# Altium footprint library Module.PcbLib: 47 footprints (part 1 of 4)
Each footprint in its own frame and in the unit in brackets; x right, y up, seen from the top. Pads: shape width x height; smd on the part's side, far side on the other; paste and mask are expansions set on the pad; w line width, h text height; cw(c..) or ccw(c..) is an arc to the next point about the centre after c.
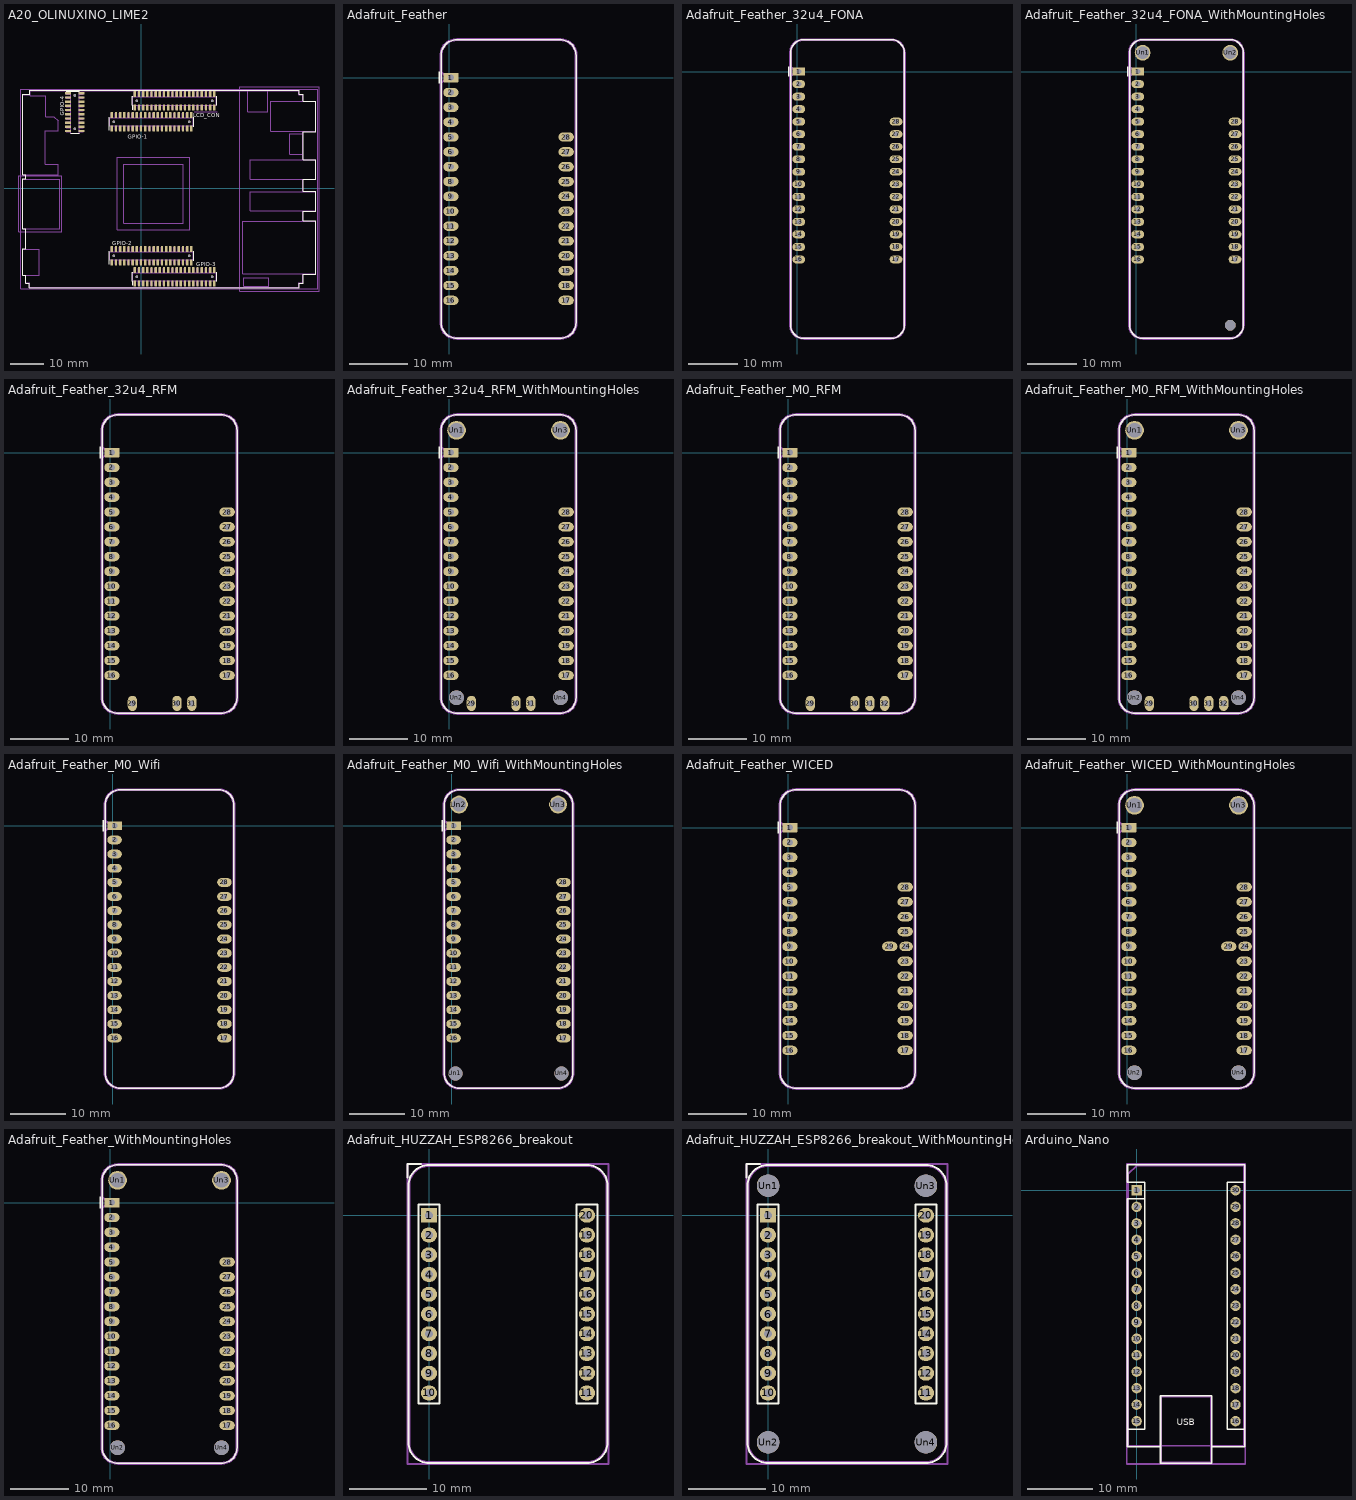
[diagram p0: the footprints below, top view; thin cyan lines are the x and y axes]

## A20_OLINUXINO_LIME2 [mm]
pads (190):
  rect 0.7x1.8 smd: 1-1(-8.95,18.16) 1-2(-8.95,22.23) 1-3(-7.68,18.16) 1-4(-7.68,22.23) 1-5(-6.41,18.16) 1-6(-6.41,22.23) 1-7(-5.14,18.16) 1-8(-5.14,22.23) 1-9(-3.87,18.16) 1-10(-3.87,22.23) 1-11(-2.6,18.16) 1-12(-2.6,22.23) 1-13(-1.33,18.16) 1-14(-1.33,22.23) 1-15(-0.06,18.16) 1-16(-0.06,22.23) 1-17(1.21,18.16) 1-18(1.21,22.23) 1-19(2.48,18.16) 1-20(2.48,22.23) 1-21(3.75,18.16) 1-22(3.75,22.23) 1-23(5.02,18.16) 1-24(5.02,22.23) 1-25(6.29,18.16) 1-26(6.29,22.23) 1-27(7.56,18.16) 1-28(7.56,22.23) 1-29(8.83,18.16) 1-30(8.83,22.23) 1-31(10.09,18.16) 1-32(10.09,22.23) 1-33(11.37,18.16) 1-34(11.37,22.23) 1-35(12.64,18.16) 1-36(12.64,22.23) 1-37(13.91,18.16) 1-38(13.91,22.23) 1-39(15.18,18.16) 1-40(15.18,22.23) 2-1(-8.95,-22.48) 2-2(-8.95,-18.42) 2-3(-7.68,-22.48) 2-4(-7.68,-18.42) 2-5(-6.41,-22.48) 2-6(-6.41,-18.42) 2-7(-5.14,-22.48) 2-8(-5.14,-18.42) 2-9(-3.87,-22.48) 2-10(-3.87,-18.42) 2-11(-2.6,-22.48) 2-12(-2.6,-18.42) 2-13(-1.33,-22.48) 2-14(-1.33,-18.42) 2-15(-0.06,-22.48) 2-16(-0.06,-18.42) 2-17(1.21,-22.48) 2-18(1.21,-18.42) 2-19(2.48,-22.48) 2-20(2.48,-18.42) 2-21(3.75,-22.48) 2-22(3.75,-18.42) 2-23(5.02,-22.48) 2-24(5.02,-18.42) 2-25(6.29,-22.48) 2-26(6.29,-18.42) 2-27(7.56,-22.48) 2-28(7.56,-18.42) 2-29(8.83,-22.48) 2-30(8.83,-18.42) 2-31(10.09,-22.48) 2-32(10.09,-18.42) 2-33(11.37,-22.48) 2-34(11.37,-18.42) 2-35(12.64,-22.48) 2-36(12.64,-18.42) 2-37(13.91,-22.48) 2-38(13.91,-18.42) 2-39(15.18,-22.48) 2-40(15.18,-18.42) 3-1(-1.97,-28.83) 3-2(-1.97,-24.76) 3-3(-0.7,-28.83) 3-4(-0.7,-24.76) 3-5(0.57,-28.83) 3-6(0.57,-24.76) 3-7(1.84,-28.83) 3-8(1.84,-24.76) 3-9(3.11,-28.83) 3-10(3.11,-24.76) 3-11(4.38,-28.83) 3-12(4.38,-24.76) 3-13(5.65,-28.83) 3-14(5.65,-24.76) 3-15(6.92,-28.83) 3-16(6.92,-24.76) 3-17(8.19,-28.83) 3-18(8.19,-24.76) 3-19(9.46,-28.83) 3-20(9.46,-24.76) 3-21(10.73,-28.83) 3-22(10.73,-24.76) 3-23(12,-28.83) 3-24(12,-24.76) 3-25(13.27,-28.83) 3-26(13.27,-24.76) 3-27(14.54,-28.83) 3-28(14.54,-24.76) 3-29(15.81,-28.83) 3-30(15.81,-24.76) 3-31(17.08,-28.83) 3-32(17.08,-24.76) 3-33(18.35,-28.83) 3-34(18.35,-24.76) 3-35(19.62,-28.83) 3-36(19.62,-24.76) 3-37(20.89,-28.83) 3-38(20.89,-24.76) 3-39(22.16,-28.83) 3-40(22.16,-24.76) D-1(-1.97,24.51) D-2(-1.97,28.58) D-3(-0.7,24.51) D-4(-0.7,28.58) D-5(0.57,24.51) D-6(0.57,28.58) D-7(1.84,24.51) D-8(1.84,28.58) D-9(3.11,24.51) D-10(3.11,28.58) D-11(4.38,24.51) D-12(4.38,28.58) D-13(5.65,24.51) D-14(5.65,28.58) D-15(6.92,24.51) D-16(6.92,28.58) D-17(8.19,24.51) D-18(8.19,28.58) D-19(9.46,24.51) D-20(9.46,28.58) D-21(10.73,24.51) D-22(10.73,28.58) D-23(12,24.51) D-24(12,28.58) D-25(13.27,24.51) D-26(13.27,28.58) D-27(14.54,24.51) D-28(14.54,28.58) D-29(15.81,24.51) D-30(15.81,28.58) D-31(17.08,24.51) D-32(17.08,28.58) D-33(18.35,24.51) D-34(18.35,28.58) D-35(19.62,24.51) D-36(19.62,28.58) D-37(20.89,24.51) D-38(20.89,28.58) D-39(22.16,24.51) D-40(22.16,28.58)
  rect 1.8x0.7 smd: 4-1(-18.1,17.4) 4-2(-22.16,17.4) 4-3(-18.1,18.67) 4-4(-22.16,18.67) 4-5(-18.1,19.94) 4-6(-22.16,19.94) 4-7(-18.1,21.21) 4-8(-22.16,21.21) 4-9(-18.1,22.48) 4-10(-22.16,22.48) 4-11(-18.1,23.75) 4-12(-22.16,23.75) 4-13(-18.1,25.02) 4-14(-22.16,25.02) 4-15(-18.1,26.29) 4-16(-22.16,26.29) 4-17(-18.1,27.56) 4-18(-22.16,27.56) 4-19(-18.1,28.83) 4-20(-22.16,28.83)
  round 0.8 hole 0.8: Un1(-20.13,28.19) Un2(-20.13,18.04) Un3(-8.32,20.19) Un4(-8.32,-20.45) Un5(-1.33,26.54) Un6(-1.33,-26.8) Un7(14.54,20.19) Un8(14.54,-20.45) Un9(21.53,26.54) Un10(21.53,-26.8)
F.SilkS:
  lines w0.254: -22.75,29.5 -21.45,29.5 -21.45,29.52 -18.79,29.52 -18.79,29.5 ; -21.45,16.72 -21.45,16.7 -18.79,16.7 -18.79,16.72 ; -9.63,-23.07 -9.63,-21.77 -9.65,-21.77 -9.65,-19.11 -9.63,-19.11 ; -9.63,17.57 -9.63,18.87 -9.65,18.87 -9.65,21.53 -9.63,21.53 ; -2.65,-29.42 -2.65,-28.12 -2.67,-28.12 -2.67,-25.46 -2.65,-25.46 ; -2.65,23.92 -2.65,25.22 -2.67,25.22 -2.67,27.88 -2.65,27.88 ; 15.85,-21.77 15.87,-21.77 15.87,-19.11 15.85,-19.11 ; 15.85,18.87 15.87,18.87 15.87,21.53 15.85,21.53 ; 22.83,-28.12 22.85,-28.12 22.85,-25.46 22.83,-25.46 ; 22.83,25.22 22.85,25.22 22.85,27.88 22.83,27.88 ; -36,-26.4 -36,-18.3 -35.1,-18.3 -35.1,-12.3 -36,-12.3 -36,2.9 -35.1,2.9 -35.1,4.1 -36,4.1 -36,28.6 -33.8,28.6 -33.8,29.7 47.9,29.7 47.9,28.6 49.1,28.6 49.1,26.5 53,26.5 53,17.2 49.1,17.2 49.1,8.7 53,8.7 53,2.7 49.1,2.7 49.1,-0.9 53,-0.9 53,-6.9 49.1,-6.9 49.1,-9.8 53,-9.8 53,-26 49.1,-26 49.1,-28.8 47.9,-28.8 47.9,-30.1 -34,-30.1 -34,-28.8 -35.1,-28.8 -35.1,-26.4 -36,-26.4
  text "GPIO-3" at 16.716,-23.565 h1.27
  text "GPIO-4" at -23.415,21.986 h1.27
  text "LCD_CON" at 15.718,21.534 h1.27
  text "GPIO-1" at -4.092,15.115 h1.27
  text "GPIO-2" at -8.774,-17.195 h1.27
Top Component Center:
  lines w0.127: -0.127,0 0.127,0 ; 0,-0.127 0,0.127
Top Assembly:
  drawing of 819 lines, arcs and shapes, not listed
  text "'.Designator'" at -4.047,-0.84 h1
Top Courtyard:
  lines w0.254: -2.88,29.61 23.02,29.61 ; 16.12,23.31 23.02,23.31 ; -36.5,-30.5 -36.5,30 53.5,30 53.5,-30.5 -36.5,-30.5
Top Designator:
  text ".Designator" at 0.802,-0.698 h1.52
Dwgs.User:
  lines w0.254: -37.08,-13.19 -37.08,3.81 -24.08,3.81 -24.08,-13.19 -37.08,-13.19 ; -7.33,-12.62 -7.33,9.38 14.67,9.38 14.67,-12.62 -7.33,-12.62 ; -5.33,-10.62 -5.33,7.38 12.67,7.38 12.67,-10.62 -5.33,-10.62 ; 29.92,-31.19 29.92,30.81 53.92,30.81 53.92,-31.19 29.92,-31.19
  text "Cutout" at -32.384,-3.84 h1
  text "for shield" at -4.778,1.526 h1
  text "required" at 35.232,10.97 h1
  text "required" at -32.768,-6.03 h1
  text "Cut out >=22x22mm" at -4.093,-5.94 h1
  text "CPU 18mmx18mm" at -4.313,5.15 h1
  text "Mininum cut out" at -4.115,3.326 h1
  text "Cutout" at 35.616,13.16 h1
  text "20mm heatsink" at -4.938,-9.764 h1
  text "if using" at -4.141,-8.03 h1

## Adafruit_Feather [mm]
pads (28):
  rrect16% 2.6x1.6 hole 1: 1(0.3,0)
  rrect100% 2.6x1.6 hole 1: 2(0.3,-2.54) 3(0.3,-5.08) 4(0.3,-7.62) 5(0.3,-10.16) 6(0.3,-12.7) 7(0.3,-15.24) 8(0.3,-17.78) 9(0.3,-20.32) 10(0.3,-22.86) 11(0.3,-25.4) 12(0.3,-27.94) 13(0.3,-30.48) 14(0.3,-33.02) 15(0.3,-35.56) 16(0.3,-38.1) 17(20.02,-38.1) 18(20.02,-35.56) 19(20.02,-33.02) 20(20.02,-30.48) 21(20.02,-27.94) 22(20.02,-25.4) 23(20.02,-22.86) 24(20.02,-20.32) 25(20.02,-17.78) 26(20.02,-15.24) 27(20.02,-12.7) 28(20.02,-10.16)
F.SilkS:
  lines w0.254: -1.7,-1 -1.7,1 ; -1.38,-41.91 ccw(c1.27,-41.91) 1.27,-44.56 19.05,-44.56 ccw(c19.05,-41.91) 21.7,-41.91 21.7,3.81 ccw(c19.05,3.81) 19.05,6.46 1.27,6.46 ccw(c1.27,3.81) -1.38,3.81 -1.38,-41.91
Top Assembly:
  lines w0.254: -1.27,-0.889 -0.381,0 -1.27,0.889 ; 1.221,-44.45 cw(c1.27,-41.91) -1.27,-41.91 -1.27,3.81 cw(c1.27,3.81) 1.27,6.35 19.05,6.35 cw(c19.05,3.81) 21.59,3.81 21.59,-41.91 cw(c19.05,-41.91) 19.05,-44.45 1.27,-44.45
  text "'.Designator'" at 11,-23.097 h1
Top Courtyard:
  lines w0.254: -1.52,-41.91 ccw(c1.27,-41.91) 1.27,-44.7 19.05,-44.7 ccw(c19.05,-41.91) 21.84,-41.91 21.84,3.81 ccw(c19.05,3.81) 19.05,6.6 1.27,6.6 ccw(c1.27,3.81) -1.52,3.81 -1.52,-41.91
Top Designator:
  text ".Designator" at 2.452,-19.558 h1.52

## Adafruit_Feather_32u4_FONA [mm]
pads (28):
  rrect16% 2.6x1.6 hole 1: 1(0.3,0)
  rrect100% 2.6x1.6 hole 1: 2(0.3,-2.54) 3(0.3,-5.08) 4(0.3,-7.62) 5(0.3,-10.16) 6(0.3,-12.7) 7(0.3,-15.24) 8(0.3,-17.78) 9(0.3,-20.32) 10(0.3,-22.86) 11(0.3,-25.4) 12(0.3,-27.94) 13(0.3,-30.48) 14(0.3,-33.02) 15(0.3,-35.56) 16(0.3,-38.1) 17(20.02,-38.1) 18(20.02,-35.56) 19(20.02,-33.02) 20(20.02,-30.48) 21(20.02,-27.94) 22(20.02,-25.4) 23(20.02,-22.86) 24(20.02,-20.32) 25(20.02,-17.78) 26(20.02,-15.24) 27(20.02,-12.7) 28(20.02,-10.16)
F.SilkS:
  lines w0.254: -1.7,-1 -1.7,1 ; -1.38,-51.44 ccw(c1.27,-51.44) 1.27,-54.09 19.05,-54.09 ccw(c19.05,-51.44) 21.7,-51.44 21.7,3.81 ccw(c19.05,3.81) 19.05,6.46 1.27,6.46 ccw(c1.27,3.81) -1.38,3.81 -1.38,-51.44
Top Assembly:
  lines w0.254: -1.27,-0.889 -0.381,0 -1.27,0.889 ; 1.221,-53.98 cw(c1.27,-51.44) -1.27,-51.44 -1.27,3.81 cw(c1.27,3.81) 1.27,6.35 19.05,6.35 cw(c19.05,3.81) 21.59,3.81 21.59,-51.44 cw(c19.05,-51.44) 19.05,-53.98 1.27,-53.98
  text "'.Designator'" at 11,-27.862 h1
Top Courtyard:
  lines w0.254: -1.52,-51.44 ccw(c1.27,-51.44) 1.27,-54.23 19.05,-54.23 ccw(c19.05,-51.44) 21.84,-51.44 21.84,3.81 ccw(c19.05,3.81) 19.05,6.6 1.27,6.6 ccw(c1.27,3.81) -1.52,3.81 -1.52,-51.44
Top Designator:
  text ".Designator" at 2.452,-24.323 h1.52

## Adafruit_Feather_32u4_FONA_WithMountingHoles [mm]
pads (31):
  rrect16% 2.6x1.6 hole 1: 1(0.3,0)
  rrect100% 2.6x1.6 hole 1: 2(0.3,-2.54) 3(0.3,-5.08) 4(0.3,-7.62) 5(0.3,-10.16) 6(0.3,-12.7) 7(0.3,-15.24) 8(0.3,-17.78) 9(0.3,-20.32) 10(0.3,-22.86) 11(0.3,-25.4) 12(0.3,-27.94) 13(0.3,-30.48) 14(0.3,-33.02) 15(0.3,-35.56) 16(0.3,-38.1) 17(20.02,-38.1) 18(20.02,-35.56) 19(20.02,-33.02) 20(20.02,-30.48) 21(20.02,-27.94) 22(20.02,-25.4) 23(20.02,-22.86) 24(20.02,-20.32) 25(20.02,-17.78) 26(20.02,-15.24) 27(20.02,-12.7) 28(20.02,-10.16)
  round 3.2 hole 2.5: Un1(1.27,3.81) Un2(19.05,3.81)
  round 2.2 hole 2.2: Un3(19.05,-51.44)
F.SilkS:
  lines w0.254: -1.7,-1 -1.7,1 ; -1.38,-51.44 ccw(c1.27,-51.44) 1.27,-54.09 19.05,-54.09 ccw(c19.05,-51.44) 21.7,-51.44 21.7,3.81 ccw(c19.05,3.81) 19.05,6.46 1.27,6.46 ccw(c1.27,3.81) -1.38,3.81 -1.38,-51.44
Top Assembly:
  lines w0.254: -1.27,-0.889 -0.381,0 -1.27,0.889 ; 1.221,-53.98 cw(c1.27,-51.44) -1.27,-51.44 -1.27,3.81 cw(c1.27,3.81) 1.27,6.35 19.05,6.35 cw(c19.05,3.81) 21.59,3.81 21.59,-51.44 cw(c19.05,-51.44) 19.05,-53.98 1.27,-53.98
  text "'.Designator'" at 11,-27.862 h1
Top Courtyard:
  lines w0.254: -1.52,-51.44 ccw(c1.27,-51.44) 1.27,-54.23 19.05,-54.23 ccw(c19.05,-51.44) 21.84,-51.44 21.84,3.81 ccw(c19.05,3.81) 19.05,6.6 1.27,6.6 ccw(c1.27,3.81) -1.52,3.81 -1.52,-51.44
Top Designator:
  text ".Designator" at 2.452,-24.323 h1.52

## Adafruit_Feather_32u4_RFM [mm]
pads (31):
  rrect16% 2.6x1.6 hole 1: 1(0.3,0)
  rrect100% 2.6x1.6 hole 1: 2(0.3,-2.54) 3(0.3,-5.08) 4(0.3,-7.62) 5(0.3,-10.16) 6(0.3,-12.7) 7(0.3,-15.24) 8(0.3,-17.78) 9(0.3,-20.32) 10(0.3,-22.86) 11(0.3,-25.4) 12(0.3,-27.94) 13(0.3,-30.48) 14(0.3,-33.02) 15(0.3,-35.56) 16(0.3,-38.1) 17(20.02,-38.1) 18(20.02,-35.56) 19(20.02,-33.02) 20(20.02,-30.48) 21(20.02,-27.94) 22(20.02,-25.4) 23(20.02,-22.86) 24(20.02,-20.32) 25(20.02,-17.78) 26(20.02,-15.24) 27(20.02,-12.7) 28(20.02,-10.16)
  rrect100% 1.6x2.6 hole 1: 29(3.81,-42.88) 30(11.43,-42.88) 31(13.97,-42.88)
F.SilkS:
  lines w0.254: -1.7,-1 -1.7,1 ; -1.38,-41.91 ccw(c1.27,-41.91) 1.27,-44.56 19.05,-44.56 ccw(c19.05,-41.91) 21.7,-41.91 21.7,3.81 ccw(c19.05,3.81) 19.05,6.46 1.27,6.46 ccw(c1.27,3.81) -1.38,3.81 -1.38,-41.91
Top Assembly:
  lines w0.254: -1.27,-0.889 -0.381,0 -1.27,0.889 ; 1.221,-44.45 cw(c1.27,-41.91) -1.27,-41.91 -1.27,3.81 cw(c1.27,3.81) 1.27,6.35 19.05,6.35 cw(c19.05,3.81) 21.59,3.81 21.59,-41.91 cw(c19.05,-41.91) 19.05,-44.45 1.27,-44.45
  text "'.Designator'" at 11,-23.097 h1
Top Courtyard:
  lines w0.254: -1.52,-41.91 ccw(c1.27,-41.91) 1.27,-44.7 19.05,-44.7 ccw(c19.05,-41.91) 21.84,-41.91 21.84,3.81 ccw(c19.05,3.81) 19.05,6.6 1.27,6.6 ccw(c1.27,3.81) -1.52,3.81 -1.52,-41.91
Top Designator:
  text ".Designator" at 2.452,-19.558 h1.52

## Adafruit_Feather_32u4_RFM_WithMountingHoles [mm]
pads (35):
  rrect16% 2.6x1.6 hole 1: 1(0.3,0)
  rrect100% 2.6x1.6 hole 1: 2(0.3,-2.54) 3(0.3,-5.08) 4(0.3,-7.62) 5(0.3,-10.16) 6(0.3,-12.7) 7(0.3,-15.24) 8(0.3,-17.78) 9(0.3,-20.32) 10(0.3,-22.86) 11(0.3,-25.4) 12(0.3,-27.94) 13(0.3,-30.48) 14(0.3,-33.02) 15(0.3,-35.56) 16(0.3,-38.1) 17(20.02,-38.1) 18(20.02,-35.56) 19(20.02,-33.02) 20(20.02,-30.48) 21(20.02,-27.94) 22(20.02,-25.4) 23(20.02,-22.86) 24(20.02,-20.32) 25(20.02,-17.78) 26(20.02,-15.24) 27(20.02,-12.7) 28(20.02,-10.16)
  rrect100% 1.6x2.6 hole 1: 29(3.81,-42.88) 30(11.43,-42.88) 31(13.97,-42.88)
  round 3.2 hole 2.5: Un1(1.27,3.81) Un3(19.05,3.81)
  round 2.54 hole 2.54: Un2(1.27,-41.91) Un4(19.05,-41.91)
F.SilkS:
  lines w0.254: -1.7,-1 -1.7,1 ; -1.38,-41.91 ccw(c1.27,-41.91) 1.27,-44.56 19.05,-44.56 ccw(c19.05,-41.91) 21.7,-41.91 21.7,3.81 ccw(c19.05,3.81) 19.05,6.46 1.27,6.46 ccw(c1.27,3.81) -1.38,3.81 -1.38,-41.91
Top Assembly:
  lines w0.254: -1.27,-0.889 -0.381,0 -1.27,0.889 ; 1.221,-44.45 cw(c1.27,-41.91) -1.27,-41.91 -1.27,3.81 cw(c1.27,3.81) 1.27,6.35 19.05,6.35 cw(c19.05,3.81) 21.59,3.81 21.59,-41.91 cw(c19.05,-41.91) 19.05,-44.45 1.27,-44.45
  text "'.Designator'" at 11,-23.097 h1
Top Courtyard:
  lines w0.254: -1.52,-41.91 ccw(c1.27,-41.91) 1.27,-44.7 19.05,-44.7 ccw(c19.05,-41.91) 21.84,-41.91 21.84,3.81 ccw(c19.05,3.81) 19.05,6.6 1.27,6.6 ccw(c1.27,3.81) -1.52,3.81 -1.52,-41.91
Top Designator:
  text ".Designator" at 2.452,-19.558 h1.52

## Adafruit_Feather_M0_RFM [mm]
pads (32):
  rrect16% 2.6x1.6 hole 1: 1(0.3,0)
  rrect100% 2.6x1.6 hole 1: 2(0.3,-2.54) 3(0.3,-5.08) 4(0.3,-7.62) 5(0.3,-10.16) 6(0.3,-12.7) 7(0.3,-15.24) 8(0.3,-17.78) 9(0.3,-20.32) 10(0.3,-22.86) 11(0.3,-25.4) 12(0.3,-27.94) 13(0.3,-30.48) 14(0.3,-33.02) 15(0.3,-35.56) 16(0.3,-38.1) 17(20.02,-38.1) 18(20.02,-35.56) 19(20.02,-33.02) 20(20.02,-30.48) 21(20.02,-27.94) 22(20.02,-25.4) 23(20.02,-22.86) 24(20.02,-20.32) 25(20.02,-17.78) 26(20.02,-15.24) 27(20.02,-12.7) 28(20.02,-10.16)
  rrect100% 1.6x2.6 hole 1: 29(3.81,-42.88) 30(11.43,-42.88) 31(13.97,-42.88) 32(16.51,-42.88)
F.SilkS:
  lines w0.254: -1.7,-1 -1.7,1 ; -1.38,-41.91 ccw(c1.27,-41.91) 1.27,-44.56 19.05,-44.56 ccw(c19.05,-41.91) 21.7,-41.91 21.7,3.81 ccw(c19.05,3.81) 19.05,6.46 1.27,6.46 ccw(c1.27,3.81) -1.38,3.81 -1.38,-41.91
Top Assembly:
  lines w0.254: -1.27,-0.889 -0.381,0 -1.27,0.889 ; 1.221,-44.45 cw(c1.27,-41.91) -1.27,-41.91 -1.27,3.81 cw(c1.27,3.81) 1.27,6.35 19.05,6.35 cw(c19.05,3.81) 21.59,3.81 21.59,-41.91 cw(c19.05,-41.91) 19.05,-44.45 1.27,-44.45
  text "'.Designator'" at 11,-23.097 h1
Top Courtyard:
  lines w0.254: -1.52,-41.91 ccw(c1.27,-41.91) 1.27,-44.7 19.05,-44.7 ccw(c19.05,-41.91) 21.84,-41.91 21.84,3.81 ccw(c19.05,3.81) 19.05,6.6 1.27,6.6 ccw(c1.27,3.81) -1.52,3.81 -1.52,-41.91
Top Designator:
  text ".Designator" at 2.452,-19.558 h1.52

## Adafruit_Feather_M0_RFM_WithMountingHoles [mm]
pads (36):
  rrect16% 2.6x1.6 hole 1: 1(0.3,0)
  rrect100% 2.6x1.6 hole 1: 2(0.3,-2.54) 3(0.3,-5.08) 4(0.3,-7.62) 5(0.3,-10.16) 6(0.3,-12.7) 7(0.3,-15.24) 8(0.3,-17.78) 9(0.3,-20.32) 10(0.3,-22.86) 11(0.3,-25.4) 12(0.3,-27.94) 13(0.3,-30.48) 14(0.3,-33.02) 15(0.3,-35.56) 16(0.3,-38.1) 17(20.02,-38.1) 18(20.02,-35.56) 19(20.02,-33.02) 20(20.02,-30.48) 21(20.02,-27.94) 22(20.02,-25.4) 23(20.02,-22.86) 24(20.02,-20.32) 25(20.02,-17.78) 26(20.02,-15.24) 27(20.02,-12.7) 28(20.02,-10.16)
  rrect100% 1.6x2.6 hole 1: 29(3.81,-42.88) 30(11.43,-42.88) 31(13.97,-42.88) 32(16.51,-42.88)
  round 3.2 hole 2.5: Un1(1.27,3.81) Un3(19.05,3.81)
  round 2.54 hole 2.54: Un2(1.27,-41.91) Un4(19.05,-41.91)
F.SilkS:
  lines w0.254: -1.7,-1 -1.7,1 ; -1.38,-41.91 ccw(c1.27,-41.91) 1.27,-44.56 19.05,-44.56 ccw(c19.05,-41.91) 21.7,-41.91 21.7,3.81 ccw(c19.05,3.81) 19.05,6.46 1.27,6.46 ccw(c1.27,3.81) -1.38,3.81 -1.38,-41.91
Top Assembly:
  lines w0.254: -1.27,-0.889 -0.381,0 -1.27,0.889 ; 1.221,-44.45 cw(c1.27,-41.91) -1.27,-41.91 -1.27,3.81 cw(c1.27,3.81) 1.27,6.35 19.05,6.35 cw(c19.05,3.81) 21.59,3.81 21.59,-41.91 cw(c19.05,-41.91) 19.05,-44.45 1.27,-44.45
  text "'.Designator'" at 11,-23.097 h1
Top Courtyard:
  lines w0.254: -1.52,-41.91 ccw(c1.27,-41.91) 1.27,-44.7 19.05,-44.7 ccw(c19.05,-41.91) 21.84,-41.91 21.84,3.81 ccw(c19.05,3.81) 19.05,6.6 1.27,6.6 ccw(c1.27,3.81) -1.52,3.81 -1.52,-41.91
Top Designator:
  text ".Designator" at 2.452,-19.558 h1.52

## Adafruit_Feather_M0_Wifi [mm]
pads (28):
  rrect16% 2.6x1.6 hole 1: 1(0.3,0)
  rrect100% 2.6x1.6 hole 1: 2(0.3,-2.54) 3(0.3,-5.08) 4(0.3,-7.62) 5(0.3,-10.16) 6(0.3,-12.7) 7(0.3,-15.24) 8(0.3,-17.78) 9(0.3,-20.32) 10(0.3,-22.86) 11(0.3,-25.4) 12(0.3,-27.94) 13(0.3,-30.48) 14(0.3,-33.02) 15(0.3,-35.56) 16(0.3,-38.1) 17(20.02,-38.1) 18(20.02,-35.56) 19(20.02,-33.02) 20(20.02,-30.48) 21(20.02,-27.94) 22(20.02,-25.4) 23(20.02,-22.86) 24(20.02,-20.32) 25(20.02,-17.78) 26(20.02,-15.24) 27(20.02,-12.7) 28(20.02,-10.16)
F.SilkS:
  lines w0.254: -1.7,-1 -1.7,1 ; -1.38,-44.45 ccw(c1.27,-44.45) 1.27,-47.1 19.05,-47.1 ccw(c19.05,-44.45) 21.7,-44.45 21.7,3.81 ccw(c19.05,3.81) 19.05,6.46 1.27,6.46 ccw(c1.27,3.81) -1.38,3.81 -1.38,-44.45
Top Assembly:
  lines w0.254: -1.27,-0.889 -0.381,0 -1.27,0.889 ; 1.221,-46.99 cw(c1.27,-44.45) -1.27,-44.45 -1.27,3.81 cw(c1.27,3.81) 1.27,6.35 19.05,6.35 cw(c19.05,3.81) 21.59,3.81 21.59,-44.45 cw(c19.05,-44.45) 19.05,-46.99 1.27,-46.99
  text "'.Designator'" at 11,-24.367 h1
Top Courtyard:
  lines w0.254: -1.52,-44.45 ccw(c1.27,-44.45) 1.27,-47.24 19.05,-47.24 ccw(c19.05,-44.45) 21.84,-44.45 21.84,3.81 ccw(c19.05,3.81) 19.05,6.6 1.27,6.6 ccw(c1.27,3.81) -1.52,3.81 -1.52,-44.45
Top Designator:
  text ".Designator" at 2.452,-20.828 h1.52

## Adafruit_Feather_M0_Wifi_WithMountingHoles [mm]
pads (32):
  rrect16% 2.6x1.6 hole 1: 1(0.3,0)
  rrect100% 2.6x1.6 hole 1: 2(0.3,-2.54) 3(0.3,-5.08) 4(0.3,-7.62) 5(0.3,-10.16) 6(0.3,-12.7) 7(0.3,-15.24) 8(0.3,-17.78) 9(0.3,-20.32) 10(0.3,-22.86) 11(0.3,-25.4) 12(0.3,-27.94) 13(0.3,-30.48) 14(0.3,-33.02) 15(0.3,-35.56) 16(0.3,-38.1) 17(20.02,-38.1) 18(20.02,-35.56) 19(20.02,-33.02) 20(20.02,-30.48) 21(20.02,-27.94) 22(20.02,-25.4) 23(20.02,-22.86) 24(20.02,-20.32) 25(20.02,-17.78) 26(20.02,-15.24) 27(20.02,-12.7) 28(20.02,-10.16)
  round 2.54 hole 2.54: Un1(0.635,-44.45) Un4(19.685,-44.45)
  round 3.2 hole 2.5: Un2(1.27,3.81) Un3(19.05,3.81)
F.SilkS:
  lines w0.254: -1.7,-1 -1.7,1 ; -1.38,-44.45 ccw(c1.27,-44.45) 1.27,-47.1 19.05,-47.1 ccw(c19.05,-44.45) 21.7,-44.45 21.7,3.81 ccw(c19.05,3.81) 19.05,6.46 1.27,6.46 ccw(c1.27,3.81) -1.38,3.81 -1.38,-44.45
Top Assembly:
  lines w0.254: -1.27,-0.889 -0.381,0 -1.27,0.889 ; 1.221,-46.99 cw(c1.27,-44.45) -1.27,-44.45 -1.27,3.81 cw(c1.27,3.81) 1.27,6.35 19.05,6.35 cw(c19.05,3.81) 21.59,3.81 21.59,-44.45 cw(c19.05,-44.45) 19.05,-46.99 1.27,-46.99
  text "'.Designator'" at 11,-24.367 h1
Top Courtyard:
  lines w0.254: -1.52,-44.45 ccw(c1.27,-44.45) 1.27,-47.24 19.05,-47.24 ccw(c19.05,-44.45) 21.84,-44.45 21.84,3.81 ccw(c19.05,3.81) 19.05,6.6 1.27,6.6 ccw(c1.27,3.81) -1.52,3.81 -1.52,-44.45
Top Designator:
  text ".Designator" at 2.452,-20.828 h1.52

## Adafruit_Feather_WICED [mm]
pads (29):
  rrect16% 2.6x1.6 hole 1: 1(0.3,0)
  rrect100% 2.6x1.6 hole 1: 2(0.3,-2.54) 3(0.3,-5.08) 4(0.3,-7.62) 5(0.3,-10.16) 6(0.3,-12.7) 7(0.3,-15.24) 8(0.3,-17.78) 9(0.3,-20.32) 10(0.3,-22.86) 11(0.3,-25.4) 12(0.3,-27.94) 13(0.3,-30.48) 14(0.3,-33.02) 15(0.3,-35.56) 16(0.3,-38.1) 17(20.02,-38.1) 18(20.02,-35.56) 19(20.02,-33.02) 20(20.02,-30.48) 21(20.02,-27.94) 22(20.02,-25.4) 23(20.02,-22.86) 25(20.02,-17.78) 26(20.02,-15.24) 27(20.02,-12.7) 28(20.02,-10.16) 29(17.38,-20.32)
  rrect100% 2.3x1.6 hole 1: 24(20.17,-20.32)
F.SilkS:
  lines w0.254: -1.7,-1 -1.7,1 ; -1.38,-41.91 ccw(c1.27,-41.91) 1.27,-44.56 19.05,-44.56 ccw(c19.05,-41.91) 21.7,-41.91 21.7,3.81 ccw(c19.05,3.81) 19.05,6.46 1.27,6.46 ccw(c1.27,3.81) -1.38,3.81 -1.38,-41.91
Top Assembly:
  lines w0.254: -1.27,-0.889 -0.381,0 -1.27,0.889 ; 1.221,-44.45 cw(c1.27,-41.91) -1.27,-41.91 -1.27,3.81 cw(c1.27,3.81) 1.27,6.35 19.05,6.35 cw(c19.05,3.81) 21.59,3.81 21.59,-41.91 cw(c19.05,-41.91) 19.05,-44.45 1.27,-44.45
  text "'.Designator'" at 11,-23.097 h1
Top Courtyard:
  lines w0.254: -1.52,-41.91 ccw(c1.27,-41.91) 1.27,-44.7 19.05,-44.7 ccw(c19.05,-41.91) 21.84,-41.91 21.84,3.81 ccw(c19.05,3.81) 19.05,6.6 1.27,6.6 ccw(c1.27,3.81) -1.52,3.81 -1.52,-41.91
Top Designator:
  text ".Designator" at 2.452,-19.558 h1.52

## Adafruit_Feather_WICED_WithMountingHoles [mm]
pads (33):
  rrect16% 2.6x1.6 hole 1: 1(0.3,0)
  rrect100% 2.6x1.6 hole 1: 2(0.3,-2.54) 3(0.3,-5.08) 4(0.3,-7.62) 5(0.3,-10.16) 6(0.3,-12.7) 7(0.3,-15.24) 8(0.3,-17.78) 9(0.3,-20.32) 10(0.3,-22.86) 11(0.3,-25.4) 12(0.3,-27.94) 13(0.3,-30.48) 14(0.3,-33.02) 15(0.3,-35.56) 16(0.3,-38.1) 17(20.02,-38.1) 18(20.02,-35.56) 19(20.02,-33.02) 20(20.02,-30.48) 21(20.02,-27.94) 22(20.02,-25.4) 23(20.02,-22.86) 25(20.02,-17.78) 26(20.02,-15.24) 27(20.02,-12.7) 28(20.02,-10.16) 29(17.38,-20.32)
  rrect100% 2.3x1.6 hole 1: 24(20.17,-20.32)
  round 3.2 hole 2.5: Un1(1.27,3.81) Un3(19.05,3.81)
  round 2.54 hole 2.54: Un2(1.27,-41.91) Un4(19.05,-41.91)
F.SilkS:
  lines w0.254: -1.7,-1 -1.7,1 ; -1.38,-41.91 ccw(c1.27,-41.91) 1.27,-44.56 19.05,-44.56 ccw(c19.05,-41.91) 21.7,-41.91 21.7,3.81 ccw(c19.05,3.81) 19.05,6.46 1.27,6.46 ccw(c1.27,3.81) -1.38,3.81 -1.38,-41.91
Top Assembly:
  lines w0.254: -1.27,-0.889 -0.381,0 -1.27,0.889 ; 1.221,-44.45 cw(c1.27,-41.91) -1.27,-41.91 -1.27,3.81 cw(c1.27,3.81) 1.27,6.35 19.05,6.35 cw(c19.05,3.81) 21.59,3.81 21.59,-41.91 cw(c19.05,-41.91) 19.05,-44.45 1.27,-44.45
  text "'.Designator'" at 11,-23.097 h1
Top Courtyard:
  lines w0.254: -1.52,-41.91 ccw(c1.27,-41.91) 1.27,-44.7 19.05,-44.7 ccw(c19.05,-41.91) 21.84,-41.91 21.84,3.81 ccw(c19.05,3.81) 19.05,6.6 1.27,6.6 ccw(c1.27,3.81) -1.52,3.81 -1.52,-41.91
Top Designator:
  text ".Designator" at 2.452,-19.558 h1.52

## Adafruit_Feather_WithMountingHoles [mm]
pads (32):
  rect 2.6x1.6 hole 1: 1(0.3,0)
  rrect100% 2.6x1.6 hole 1: 2(0.3,-2.54) 3(0.3,-5.08) 4(0.3,-7.62) 5(0.3,-10.16) 6(0.3,-12.7) 7(0.3,-15.24) 8(0.3,-17.78) 9(0.3,-20.32) 10(0.3,-22.86) 11(0.3,-25.4) 12(0.3,-27.94) 13(0.3,-30.48) 14(0.3,-33.02) 15(0.3,-35.56) 16(0.3,-38.1) 17(20.02,-38.1) 18(20.02,-35.56) 19(20.02,-33.02) 20(20.02,-30.48) 21(20.02,-27.94) 22(20.02,-25.4) 23(20.02,-22.86) 24(20.02,-20.32) 25(20.02,-17.78) 26(20.02,-15.24) 27(20.02,-12.7) 28(20.02,-10.16)
  round 3.2 hole 2.5: Un1(1.27,3.81) Un3(19.05,3.81)
  round 2.54 hole 2.54: Un2(1.27,-41.91) Un4(19.05,-41.91)
F.SilkS:
  lines w0.254: -1.7,-1 -1.7,1 ; -1.38,-41.91 ccw(c1.27,-41.91) 1.27,-44.56 19.05,-44.56 ccw(c19.05,-41.91) 21.7,-41.91 21.7,3.81 ccw(c19.05,3.81) 19.05,6.46 1.27,6.46 ccw(c1.27,3.81) -1.38,3.81 -1.38,-41.91
Top Assembly:
  lines w0.254: -1.27,-0.889 -0.381,0 -1.27,0.889 ; 1.221,-44.45 cw(c1.27,-41.91) -1.27,-41.91 -1.27,3.81 cw(c1.27,3.81) 1.27,6.35 19.05,6.35 cw(c19.05,3.81) 21.59,3.81 21.59,-41.91 cw(c19.05,-41.91) 19.05,-44.45 1.27,-44.45
  text "'.Designator'" at 11,-23.097 h1
Top Courtyard:
  lines w0.254: -1.52,-41.91 ccw(c1.27,-41.91) 1.27,-44.7 19.05,-44.7 ccw(c19.05,-41.91) 21.84,-41.91 21.84,3.81 ccw(c19.05,3.81) 19.05,6.6 1.27,6.6 ccw(c1.27,3.81) -1.52,3.81 -1.52,-41.91
Top Designator:
  text ".Designator" at 2.452,-19.558 h1.52

## Adafruit_HUZZAH_ESP8266_breakout [mm]
pads (20):
  rect 2.1x1.9 hole 1.02: 1(0,0)
  rrect100% 2.1x1.9 hole 1.02: 2(0,-2.54) 3(0,-5.08) 4(0,-7.62) 5(0,-10.16) 6(0,-12.7) 7(0,-15.24) 8(0,-17.78) 9(0,-20.32) 10(0,-22.86) 11(20.32,-22.86) 12(20.32,-20.32) 13(20.32,-17.78) 14(20.32,-15.24) 15(20.32,-12.7) 16(20.32,-10.16) 17(20.32,-7.62) 18(20.32,-5.08) 19(20.32,-2.54) 20(20.32,0)
F.SilkS:
  lines w0.254: -2.79,4.85 -2.79,6.6 -1.04,6.6 ; -2.66,-29.21 ccw(c0,-29.21) 0,-31.87 20.32,-31.87 ccw(c20.32,-29.21) 22.98,-29.21 22.98,3.81 ccw(c20.32,3.81) 20.32,6.47 0,6.47 ccw(c0,3.81) -2.66,3.81 -2.66,-29.21 ; -1.37,-24.23 1.37,-24.23 1.37,1.37 -1.37,1.37 -1.37,-24.23 ; 18.95,-24.23 21.69,-24.23 21.69,1.37 18.95,1.37 18.95,-24.23
Top Assembly:
  lines w0.254: -2.79,4.85 -2.79,6.6 -1.04,6.6 ; -2.54,-29.21 ccw(c0,-29.21) 0,-31.75 20.32,-31.75 ccw(c20.32,-29.21) 22.86,-29.21 22.86,3.81 ccw(c20.32,3.81) 20.32,6.35 0,6.35 ccw(c0,3.81) -2.54,3.81 -2.54,-29.21
  text "'.Designator'" at 6.113,-13.54 h1
Top Courtyard:
  lines w0.254: -2.79,-32 23.11,-32 23.11,6.6 -2.79,6.6 -2.79,-32
Top Designator:
  text ".Designator" at 2.542,-13.208 h1.52

## Adafruit_HUZZAH_ESP8266_breakout_WithMountingHoles [mm]
pads (24):
  rect 2.1x1.9 hole 1.02: 1(0,0)
  rrect100% 2.1x1.9 hole 1.02: 2(0,-2.54) 3(0,-5.08) 4(0,-7.62) 5(0,-10.16) 6(0,-12.7) 7(0,-15.24) 8(0,-17.78) 9(0,-20.32) 10(0,-22.86) 11(20.32,-22.86) 12(20.32,-20.32) 13(20.32,-17.78) 14(20.32,-15.24) 15(20.32,-12.7) 16(20.32,-10.16) 17(20.32,-7.62) 18(20.32,-5.08) 19(20.32,-2.54) 20(20.32,0)
  round 2.9 hole 2.9: Un1(0,3.81) Un2(0,-29.21) Un3(20.32,3.81) Un4(20.32,-29.21)
F.SilkS:
  lines w0.254: -2.79,4.85 -2.79,6.6 -1.04,6.6 ; -2.66,-29.21 ccw(c0,-29.21) 0,-31.87 20.32,-31.87 ccw(c20.32,-29.21) 22.98,-29.21 22.98,3.81 ccw(c20.32,3.81) 20.32,6.47 0,6.47 ccw(c0,3.81) -2.66,3.81 -2.66,-29.21 ; -1.37,-24.23 1.37,-24.23 1.37,1.37 -1.37,1.37 -1.37,-24.23 ; 18.95,-24.23 21.69,-24.23 21.69,1.37 18.95,1.37 18.95,-24.23
Top Assembly:
  lines w0.254: -2.79,4.85 -2.79,6.6 -1.04,6.6 ; -2.54,-29.21 ccw(c0,-29.21) 0,-31.75 20.32,-31.75 ccw(c20.32,-29.21) 22.86,-29.21 22.86,3.81 ccw(c20.32,3.81) 20.32,6.35 0,6.35 ccw(c0,3.81) -2.54,3.81 -2.54,-29.21
  text "'.Designator'" at 6.113,-13.54 h1
Top Courtyard:
  lines w0.254: -2.79,-32 23.11,-32 23.11,6.6 -2.79,6.6 -2.79,-32
Top Designator:
  text ".Designator" at 2.542,-13.208 h1.52

## Arduino_Nano [mm]
pads (30):
  rect 1.6x1.6 hole 1: 1(0,0)
  rrect100% 1.6x1.6 hole 1: 2(0,-2.54) 3(0,-5.08) 4(0,-7.62) 5(0,-10.16) 6(0,-12.7) 7(0,-15.24) 8(0,-17.78) 9(0,-20.32) 10(0,-22.86) 11(0,-25.4) 12(0,-27.94) 13(0,-30.48) 14(0,-33.02) 15(0,-35.56) 16(15.24,-35.56) 17(15.24,-33.02) 18(15.24,-30.48) 19(15.24,-27.94) 20(15.24,-25.4) 21(15.24,-22.86) 22(15.24,-20.32) 23(15.24,-17.78) 24(15.24,-15.24) 25(15.24,-12.7) 26(15.24,-10.16) 27(15.24,-7.62) 28(15.24,-5.08) 29(15.24,-2.54) 30(15.24,0)
F.SilkS:
  lines w0.254: -1.4,-36.83 1.27,-36.83 1.27,-1.27 ; 3.68,-39.5 -1.4,-39.5 -1.4,-1.27 1.27,-1.27 ; 11.56,-39.5 16.64,-39.5 16.64,3.94 -1.4,3.94 -1.4,1.27 1.27,1.27 1.27,-1.27 ; 16.64,-36.83 13.97,-36.83 13.97,1.27 16.64,1.27 ; 3.68,-42.04 11.56,-42.04 11.56,-31.62 3.68,-31.62 3.68,-42.04
  text "USB" at 6.22,-36.21 h1
Top Assembly:
  lines w0.254: -1.27,-39.37 16.51,-39.37 16.51,3.81 0,3.81 -1.27,2.54 -1.27,-39.37 ; 3.81,-41.91 11.43,-41.91 11.43,-31.75 3.81,-31.75 3.81,-41.91
  text "'.Designator'" at 7.19,-23.097 h1
Top Courtyard:
  lines w0.254: -1.53,-42.16 16.75,-42.16 16.75,4.06 -1.53,4.06 -1.53,-42.16
Top Designator:
  text ".Designator" at -0.008,-19.558 h1.52